# EAGLE library part JS202011AQN (library logick)
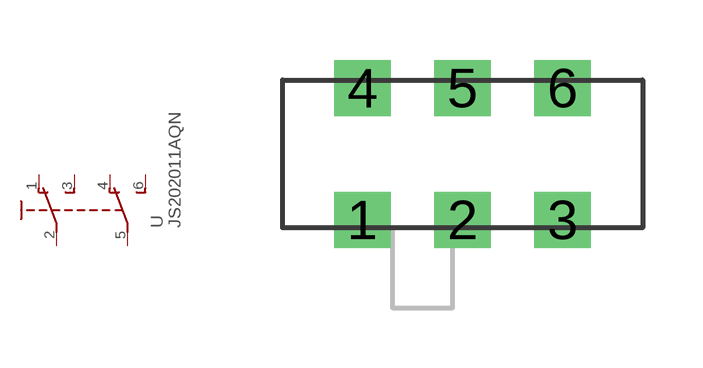
[diagram p13: symbol with the pads of JS202011AQN; footprint JS202011AQN]

Designator prefix -

## JS202011AQN  [JS202011AQN]
1  O  pas
2  P  pas
3  S  pas
4  O1  pas
5  P1  pas
6  S1  pas

## Footprint JS202011AQN (pad centres in mm)
drill 0.9 square: 1 -2.5,-1.65; 2 0,-1.65; 3 2.5,-1.65; 4 -2.5,1.65; 5 0,1.65; 6 2.5,1.65